# EAGLE library part ESP32-WROOM (library deiring-components)
ESP WROOM 32
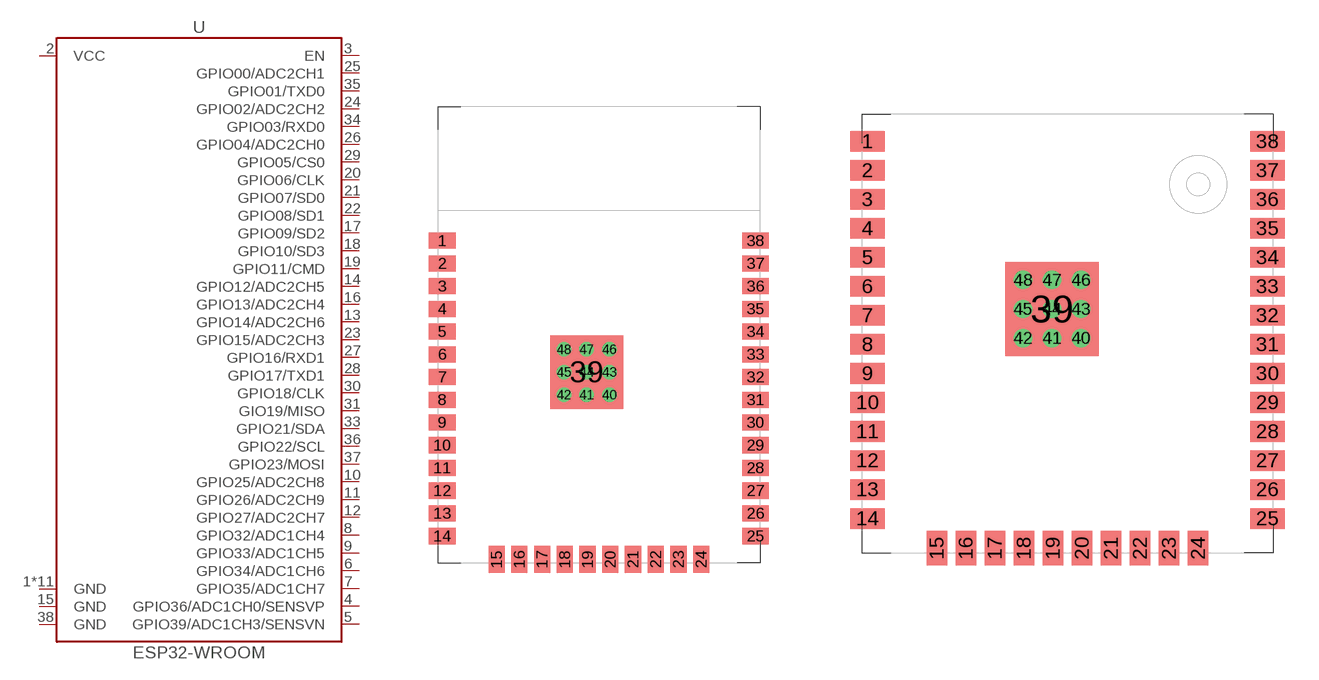
[diagram p19: symbol with the pads of ESP32-WROOM-32E; footprints ESP32-WROOM-32E, ESP32-WROOM-32UE]

Designator prefix U

## ESP32-WROOM-32E (LCSC: C701341; MF: Espressif Systems; MPN: ESP32-WROOM-32E-N4; VALUES: ESP32)  [ESP32-WROOM-32E]
1  GND  pwr
2  VCC  pwr
3  EN
4  GPIO36/ADC1CH0/SENSVP
5  GPIO39/ADC1CH3/SENSVN
6  GPIO34/ADC1CH6
7  GPIO35/ADC1CH7
8  GPIO32/ADC1CH4
9  GPIO33/ADC1CH5
10  GPIO25/ADC2CH8
11  GPIO26/ADC2CH9
12  GPIO27/ADC2CH7
13  GPIO14/ADC2CH6
14  GPIO12/ADC2CH5
15  GND  pwr
16  GPIO13/ADC2CH4
17  GPIO09/SD2
18  GPIO10/SD3
19  GPIO11/CMD
20  GPIO06/CLK
21  GPIO07/SD0
22  GPIO08/SD1
23  GPIO15/ADC2CH3
24  GPIO02/ADC2CH2
25  GPIO00/ADC2CH1
26  GPIO04/ADC2CH0
27  GPIO16/RXD1
28  GPIO17/TXD1
29  GPIO05/CS0
30  GPIO18/CLK
31  GIO19/MISO
33  GPIO21/SDA
34  GPIO03/RXD0
35  GPIO01/TXD0
36  GPIO22/SCL
37  GPIO23/MOSI
38  GND
39  GND  pwr
40  GND  pwr
41  GND  pwr
42  GND  pwr
43  GND  pwr
44  GND  pwr
45  GND  pwr
46  GND  pwr
47  GND  pwr
48  GND  pwr

## ESP32-WROOM-32UE (LCSC: C701346; MF: Espressif Systems; MPN: ESP32-WROOM-32UE-N16; VALUES: ESP32)  [ESP32-WROOM-32UE]
Pads as for ESP32-WROOM-32E

## Footprint ESP32-WROOM-32E (pad centres in mm)
smd 1.5 x 0.9: 1 -8.75,7.34; 2 -8.75,6.07; 3 -8.75,4.8; 4 -8.75,3.53; 5 -8.75,2.26; 6 -8.75,0.99; 7 -8.75,-0.28; 8 -8.75,-1.55; 9 -8.75,-2.82; 10 -8.75,-4.09; 11 -8.75,-5.36; 12 -8.75,-6.63; 13 -8.75,-7.9; 14 -8.75,-9.17; 25 8.75,-9.17; 26 8.75,-7.9; 27 8.75,-6.63; 28 8.75,-5.36; 29 8.75,-4.09; 30 8.75,-2.82; 31 8.75,-1.55; 32 8.75,-0.28; 33 8.75,0.99; 34 8.75,2.26; 35 8.75,3.53; 36 8.75,4.8; 37 8.75,6.07; 38 8.75,7.34
smd 0.9 x 1.5: 15 -5.715,-10.47; 16 -4.445,-10.47; 17 -3.175,-10.47; 18 -1.905,-10.47; 19 -0.635,-10.47; 20 0.635,-10.47; 21 1.905,-10.47; 22 3.175,-10.47; 23 4.445,-10.47; 24 5.715,-10.47
smd 4.1 x 4.1: 39 -0.68,0
drill 0.3 pad 0.5: 40 0.59,-1.27; 41 -0.68,-1.27; 42 -1.95,-1.27; 43 0.59,0; 44 -0.68,0; 45 -1.95,0; 46 0.59,1.27; 47 -0.68,1.27; 48 -1.95,1.27

## Footprint ESP32-WROOM-32UE (pad centres in mm)
smd 1.5 x 0.9: 1 -8.75,7.34; 2 -8.75,6.07; 3 -8.75,4.8; 4 -8.75,3.53; 5 -8.75,2.26; 6 -8.75,0.99; 7 -8.75,-0.28; 8 -8.75,-1.55; 9 -8.75,-2.82; 10 -8.75,-4.09; 11 -8.75,-5.36; 12 -8.75,-6.63; 13 -8.75,-7.9; 14 -8.75,-9.17; 25 8.75,-9.17; 26 8.75,-7.9; 27 8.75,-6.63; 28 8.75,-5.36; 29 8.75,-4.09; 30 8.75,-2.82; 31 8.75,-1.55; 32 8.75,-0.28; 33 8.75,0.99; 34 8.75,2.26; 35 8.75,3.53; 36 8.75,4.8; 37 8.75,6.07; 38 8.75,7.34
smd 0.9 x 1.5: 15 -5.715,-10.47; 16 -4.445,-10.47; 17 -3.175,-10.47; 18 -1.905,-10.47; 19 -0.635,-10.47; 20 0.635,-10.47; 21 1.905,-10.47; 22 3.175,-10.47; 23 4.445,-10.47; 24 5.715,-10.47
smd 4.1 x 4.1: 39 -0.68,0
drill 0.3 pad 0.5: 40 0.59,-1.27; 41 -0.68,-1.27; 42 -1.95,-1.27; 43 0.59,0; 44 -0.68,0; 45 -1.95,0; 46 0.59,1.27; 47 -0.68,1.27; 48 -1.95,1.27